# Altium integrated library ALTIUM-WCAP-ASLU-rev17a.IntLib: 55 symbols
Pins are listed as number, name and electrical type; pins without a type are passive.

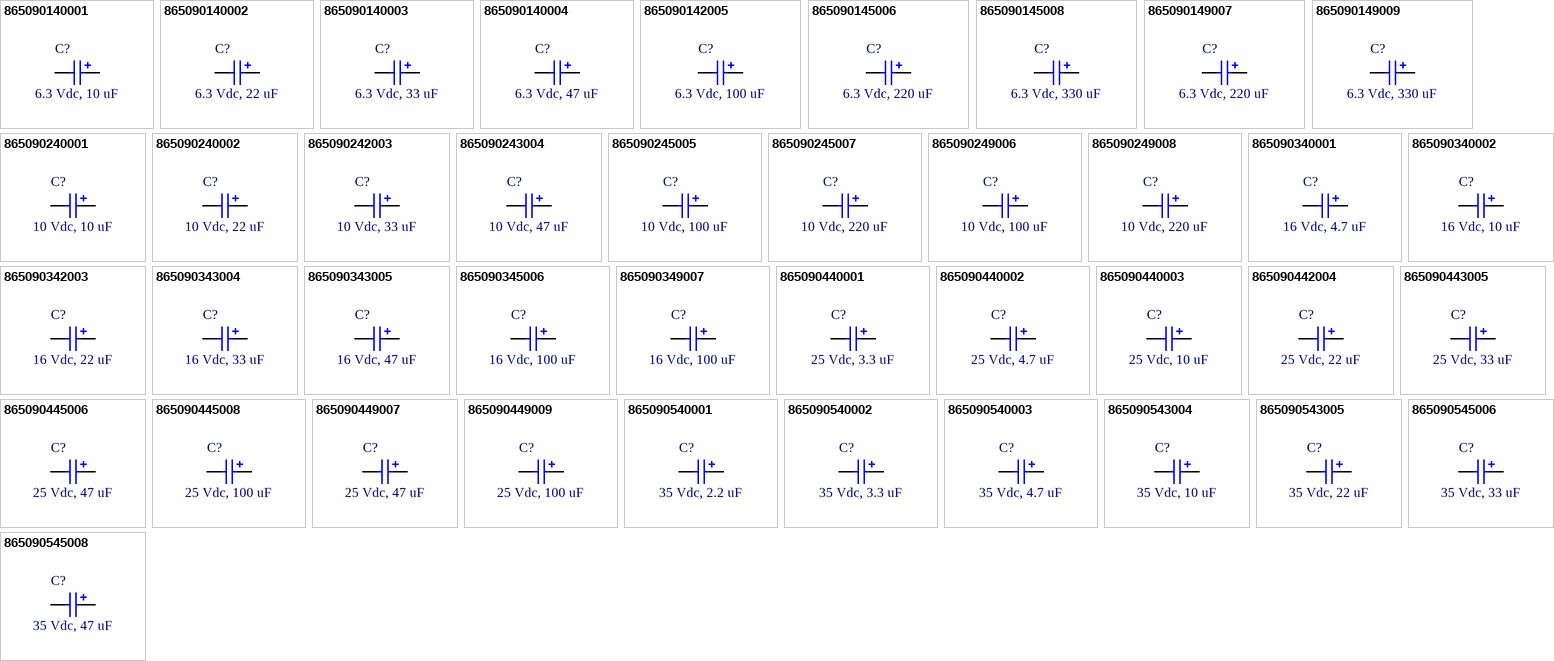
[diagram p0: symbols 865090140001 to 865090545008]

## 865090140001
designator C?, comment 6.3 Vdc, 10 uF
WCAP-ASLU Aluminum Electrolytic Capacitors, 4x5.5mm, 6.3 Vdc, 10 uF; Part Number: 865090140001; Rated Voltage: 6.3 Vdc; Value: 10 uF; ComponentLink1Description: Manufacturer; ComponentLink1URL: http://www.we-online.de; ComponentLink2Description: Datasheet; ComponentLink2URL: http://katalog.we-online.com/pbs/datasheet/865090140001.pdf; Published Date: Sep. 2017; Publisher: Wurth Elektronik; Size: 4x5.5mm; Life Cycle: 1000h; Operating Temperature: -40 °C to +85 °C
footprint WCAP-ASLU_4x5.5
pins: 1 P, 2 N

## 865090140002
designator C?, comment 6.3 Vdc, 22 uF
WCAP-ASLU Aluminum Electrolytic Capacitors, 4x5.5mm, 6.3 Vdc, 22 uF; Part Number: 865090140002; Rated Voltage: 6.3 Vdc; Value: 22 uF; ComponentLink1Description: Manufacturer; ComponentLink1URL: http://www.we-online.de; ComponentLink2Description: Datasheet; ComponentLink2URL: http://katalog.we-online.com/pbs/datasheet/865090140002.pdf; Published Date: Sep. 2017; Publisher: Wurth Elektronik; Size: 4x5.5mm; Life Cycle: 1000h; Operating Temperature: -40 °C to +85 °C
footprint WCAP-ASLU_4x5.5
pins: 1 P, 2 N

## 865090140003
designator C?, comment 6.3 Vdc, 33 uF
WCAP-ASLU Aluminum Electrolytic Capacitors, 4x5.5mm, 6.3 Vdc, 33 uF; Part Number: 865090140003; Rated Voltage: 6.3 Vdc; Value: 33 uF; ComponentLink1Description: Manufacturer; ComponentLink1URL: http://www.we-online.de; ComponentLink2Description: Datasheet; ComponentLink2URL: http://katalog.we-online.com/pbs/datasheet/865090140003.pdf; Published Date: Sep. 2017; Publisher: Wurth Elektronik; Size: 4x5.5mm; Life Cycle: 1000h; Operating Temperature: -40 °C to +85 °C
footprint WCAP-ASLU_4x5.5
pins: 1 P, 2 N

## 865090140004
designator C?, comment 6.3 Vdc, 47 uF
WCAP-ASLU Aluminum Electrolytic Capacitors, 4x5.5mm, 6.3 Vdc, 47 uF; Part Number: 865090140004; Rated Voltage: 6.3 Vdc; Value: 47 uF; ComponentLink1Description: Manufacturer; ComponentLink1URL: http://www.we-online.de; ComponentLink2Description: Datasheet; ComponentLink2URL: http://katalog.we-online.com/pbs/datasheet/865090140004.pdf; Published Date: Sep. 2017; Publisher: Wurth Elektronik; Size: 4x5.5mm; Life Cycle: 1000h; Operating Temperature: -40 °C to +85 °C
footprint WCAP-ASLU_4x5.5
pins: 1 P, 2 N

## 865090142005
designator C?, comment 6.3 Vdc, 100 uF
WCAP-ASLU Aluminum Electrolytic Capacitors, 5x5.5mm, 6.3 Vdc, 100 uF; Part Number: 865090142005; Rated Voltage: 6.3 Vdc; Value: 100 uF; ComponentLink1Description: Manufacturer; ComponentLink1URL: http://www.we-online.de; ComponentLink2Description: Datasheet; ComponentLink2URL: http://katalog.we-online.com/pbs/datasheet/865090142005.pdf; Published Date: Sep. 2017; Publisher: Wurth Elektronik; Size: 5x5.5mm; Life Cycle: 1000h; Operating Temperature: -40 °C to +85 °C
footprint WCAP-ASLU_5x5.5
pins: 1 P, 2 N

## 865090145006
designator C?, comment 6.3 Vdc, 220 uF
WCAP-ASLU Aluminum Electrolytic Capacitors, 6.3x7.7mm, 6.3 Vdc, 220 uF; Part Number: 865090145006; Rated Voltage: 6.3 Vdc; Value: 220 uF; ComponentLink1Description: Manufacturer; ComponentLink1URL: http://www.we-online.de; ComponentLink2Description: Datasheet; ComponentLink2URL: http://katalog.we-online.com/pbs/datasheet/865090145006.pdf; Published Date: Sep. 2017; Publisher: Wurth Elektronik; Size: 6.3x7.7mm; Life Cycle: 1000h; Operating Temperature: -40 °C to +85 °C
footprint WCAP-ASLU_6.3x7.7
pins: 1 P, 2 N

## 865090145008
designator C?, comment 6.3 Vdc, 330 uF
WCAP-ASLU Aluminum Electrolytic Capacitors, 6.3x7.7mm, 6.3 Vdc, 330 uF; Part Number: 865090145008; Rated Voltage: 6.3 Vdc; Value: 330 uF; ComponentLink1Description: Manufacturer; ComponentLink1URL: http://www.we-online.de; ComponentLink2Description: Datasheet; ComponentLink2URL: http://katalog.we-online.com/pbs/datasheet/865090145008.pdf; Published Date: Sep. 2017; Publisher: Wurth Elektronik; Size: 6.3x7.7mm; Life Cycle: 1000h; Operating Temperature: -40 °C to +85 °C
footprint WCAP-ASLU_6.3x7.7
pins: 1 P, 2 N

## 865090149007
designator C?, comment 6.3 Vdc, 220 uF
WCAP-ASLU Aluminum Electrolytic Capacitors, 8x6.5mm, 6.3 Vdc, 220 uF; Part Number: 865090149007; Rated Voltage: 6.3 Vdc; Value: 220 uF; ComponentLink1Description: Manufacturer; ComponentLink1URL: http://www.we-online.de; ComponentLink2Description: Datasheet; ComponentLink2URL: http://katalog.we-online.com/pbs/datasheet/865090149007.pdf; Published Date: Sep. 2017; Publisher: Wurth Elektronik; Size: 8x6.5mm; Life Cycle: 1000h; Operating Temperature: -40 °C to +85 °C
footprint WCAP-ASLU_8x6.5
pins: 1 P, 2 N

## 865090149009
designator C?, comment 6.3 Vdc, 330 uF
WCAP-ASLU Aluminum Electrolytic Capacitors, 8x6.5mm, 6.3 Vdc, 330 uF; Part Number: 865090149009; Rated Voltage: 6.3 Vdc; Value: 330 uF; ComponentLink1Description: Manufacturer; ComponentLink1URL: http://www.we-online.de; ComponentLink2Description: Datasheet; ComponentLink2URL: http://katalog.we-online.com/pbs/datasheet/865090149009.pdf; Published Date: Sep. 2017; Publisher: Wurth Elektronik; Size: 8x6.5mm; Life Cycle: 1000h; Operating Temperature: -40 °C to +85 °C
footprint WCAP-ASLU_8x6.5
pins: 1 P, 2 N

## 865090240001
designator C?, comment 10 Vdc, 10 uF
WCAP-ASLU Aluminum Electrolytic Capacitors, 4x5.5mm, 10 Vdc, 10 uF; Part Number: 865090240001; Rated Voltage: 10 Vdc; Value: 10 uF; ComponentLink1Description: Manufacturer; ComponentLink1URL: http://www.we-online.de; ComponentLink2Description: Datasheet; ComponentLink2URL: http://katalog.we-online.com/pbs/datasheet/865090240001.pdf; Published Date: Sep. 2017; Publisher: Wurth Elektronik; Size: 4x5.5mm; Life Cycle: 1000h; Operating Temperature: -40 °C to +85 °C
footprint WCAP-ASLU_4x5.5
pins: 1 P, 2 N

## 865090240002
designator C?, comment 10 Vdc, 22 uF
WCAP-ASLU Aluminum Electrolytic Capacitors, 4x5.5mm, 10 Vdc, 22 uF; Part Number: 865090240002; Rated Voltage: 10 Vdc; Value: 22 uF; ComponentLink1Description: Manufacturer; ComponentLink1URL: http://www.we-online.de; ComponentLink2Description: Datasheet; ComponentLink2URL: http://katalog.we-online.com/pbs/datasheet/865090240002.pdf; Published Date: Sep. 2017; Publisher: Wurth Elektronik; Size: 4x5.5mm; Life Cycle: 1000h; Operating Temperature: -40 °C to +85 °C
footprint WCAP-ASLU_4x5.5
pins: 1 P, 2 N

## 865090242003
designator C?, comment 10 Vdc, 33 uF
WCAP-ASLU Aluminum Electrolytic Capacitors, 5x5.5mm, 10 Vdc, 33 uF; Part Number: 865090242003; Rated Voltage: 10 Vdc; Value: 33 uF; ComponentLink1Description: Manufacturer; ComponentLink1URL: http://www.we-online.de; ComponentLink2Description: Datasheet; ComponentLink2URL: http://katalog.we-online.com/pbs/datasheet/865090242003.pdf; Published Date: Sep. 2017; Publisher: Wurth Elektronik; Size: 5x5.5mm; Life Cycle: 1000h; Operating Temperature: -40 °C to +85 °C
footprint WCAP-ASLU_5x5.5
pins: 1 P, 2 N

## 865090243004
designator C?, comment 10 Vdc, 47 uF
WCAP-ASLU Aluminum Electrolytic Capacitors, 6.3x5.5mm, 10 Vdc, 47 uF; Part Number: 865090243004; Rated Voltage: 10 Vdc; Value: 47 uF; ComponentLink1Description: Manufacturer; ComponentLink1URL: http://www.we-online.de; ComponentLink2Description: Datasheet; ComponentLink2URL: http://katalog.we-online.com/pbs/datasheet/865090243004.pdf; Published Date: Sep. 2017; Publisher: Wurth Elektronik; Size: 6.3x5.5mm; Life Cycle: 1000h; Operating Temperature: -40 °C to +85 °C
footprint WCAP-ASLU_6.3x5.5
pins: 1 P, 2 N

## 865090245005
designator C?, comment 10 Vdc, 100 uF
WCAP-ASLU Aluminum Electrolytic Capacitors, 6.3x7.7mm, 10 Vdc, 100 uF; Part Number: 865090245005; Rated Voltage: 10 Vdc; Value: 100 uF; ComponentLink1Description: Manufacturer; ComponentLink1URL: http://www.we-online.de; ComponentLink2Description: Datasheet; ComponentLink2URL: http://katalog.we-online.com/pbs/datasheet/865090245005.pdf; Published Date: Sep. 2017; Publisher: Wurth Elektronik; Size: 6.3x7.7mm; Life Cycle: 1000h; Operating Temperature: -40 °C to +85 °C
footprint WCAP-ASLU_6.3x7.7
pins: 1 P, 2 N

## 865090245007
designator C?, comment 10 Vdc, 220 uF
WCAP-ASLU Aluminum Electrolytic Capacitors, 6.3x7.7mm, 10 Vdc, 220 uF; Part Number: 865090245007; Rated Voltage: 10 Vdc; Value: 220 uF; ComponentLink1Description: Manufacturer; ComponentLink1URL: http://www.we-online.de; ComponentLink2Description: Datasheet; ComponentLink2URL: http://katalog.we-online.com/pbs/datasheet/865090245007.pdf; Published Date: Sep. 2017; Publisher: Wurth Elektronik; Size: 6.3x7.7mm; Life Cycle: 1000h; Operating Temperature: -40 °C to +85 °C
footprint WCAP-ASLU_6.3x7.7
pins: 1 P, 2 N

## 865090249006
designator C?, comment 10 Vdc, 100 uF
WCAP-ASLU Aluminum Electrolytic Capacitors, 8x6.5mm, 10 Vdc, 100 uF; Part Number: 865090249006; Rated Voltage: 10 Vdc; Value: 100 uF; ComponentLink1Description: Manufacturer; ComponentLink1URL: http://www.we-online.de; ComponentLink2Description: Datasheet; ComponentLink2URL: http://katalog.we-online.com/pbs/datasheet/865090249006.pdf; Published Date: Sep. 2017; Publisher: Wurth Elektronik; Size: 8x6.5mm; Life Cycle: 1000h; Operating Temperature: -40 °C to +85 °C
footprint WCAP-ASLU_8x6.5
pins: 1 P, 2 N

## 865090249008
designator C?, comment 10 Vdc, 220 uF
WCAP-ASLU Aluminum Electrolytic Capacitors, 8x6.5mm, 10 Vdc, 220 uF; Part Number: 865090249008; Rated Voltage: 10 Vdc; Value: 220 uF; ComponentLink1Description: Manufacturer; ComponentLink1URL: http://www.we-online.de; ComponentLink2Description: Datasheet; ComponentLink2URL: http://katalog.we-online.com/pbs/datasheet/865090249008.pdf; Published Date: Sep. 2017; Publisher: Wurth Elektronik; Size: 8x6.5mm; Life Cycle: 1000h; Operating Temperature: -40 °C to +85 °C
footprint WCAP-ASLU_8x6.5
pins: 1 P, 2 N

## 865090340001
designator C?, comment 16 Vdc, 4.7 uF
WCAP-ASLU Aluminum Electrolytic Capacitors, 4x5.5mm, 16 Vdc, 4.7 uF; Part Number: 865090340001; Rated Voltage: 16 Vdc; Value: 4.7 uF; ComponentLink1Description: Manufacturer; ComponentLink1URL: http://www.we-online.de; ComponentLink2Description: Datasheet; ComponentLink2URL: http://katalog.we-online.com/pbs/datasheet/865090340001.pdf; Published Date: Sep. 2017; Publisher: Wurth Elektronik; Size: 4x5.5mm; Life Cycle: 1000h; Operating Temperature: -40 °C to +85 °C
footprint WCAP-ASLU_4x5.5
pins: 1 P, 2 N

## 865090340002
designator C?, comment 16 Vdc, 10 uF
WCAP-ASLU Aluminum Electrolytic Capacitors, 4x5.5mm, 16 Vdc, 10 uF; Part Number: 865090340002; Rated Voltage: 16 Vdc; Value: 10 uF; ComponentLink1Description: Manufacturer; ComponentLink1URL: http://www.we-online.de; ComponentLink2Description: Datasheet; ComponentLink2URL: http://katalog.we-online.com/pbs/datasheet/865090340002.pdf; Published Date: Sep. 2017; Publisher: Wurth Elektronik; Size: 4x5.5mm; Life Cycle: 1000h; Operating Temperature: -40 °C to +85 °C
footprint WCAP-ASLU_4x5.5
pins: 1 P, 2 N

## 865090342003
designator C?, comment 16 Vdc, 22 uF
WCAP-ASLU Aluminum Electrolytic Capacitors, 5x5.5mm, 16 Vdc, 22 uF; Part Number: 865090342003; Rated Voltage: 16 Vdc; Value: 22 uF; ComponentLink1Description: Manufacturer; ComponentLink1URL: http://www.we-online.de; ComponentLink2Description: Datasheet; ComponentLink2URL: http://katalog.we-online.com/pbs/datasheet/865090342003.pdf; Published Date: Sep. 2017; Publisher: Wurth Elektronik; Size: 5x5.5mm; Life Cycle: 1000h; Operating Temperature: -40 °C to +85 °C
footprint WCAP-ASLU_5x5.5
pins: 1 P, 2 N

## 865090343004
designator C?, comment 16 Vdc, 33 uF
WCAP-ASLU Aluminum Electrolytic Capacitors, 6.3x5.5mm, 16 Vdc, 33 uF; Part Number: 865090343004; Rated Voltage: 16 Vdc; Value: 33 uF; ComponentLink1Description: Manufacturer; ComponentLink1URL: http://www.we-online.de; ComponentLink2Description: Datasheet; ComponentLink2URL: http://katalog.we-online.com/pbs/datasheet/865090343004.pdf; Published Date: Sep. 2017; Publisher: Wurth Elektronik; Size: 6.3x5.5mm; Life Cycle: 1000h; Operating Temperature: -40 °C to +85 °C
footprint WCAP-ASLU_6.3x5.5
pins: 1 P, 2 N

## 865090343005
designator C?, comment 16 Vdc, 47 uF
WCAP-ASLU Aluminum Electrolytic Capacitors, 6.3x5.5mm, 16 Vdc, 47 uF; Part Number: 865090343005; Rated Voltage: 16 Vdc; Value: 47 uF; ComponentLink1Description: Manufacturer; ComponentLink1URL: http://www.we-online.de; ComponentLink2Description: Datasheet; ComponentLink2URL: http://katalog.we-online.com/pbs/datasheet/865090343005.pdf; Published Date: Sep. 2017; Publisher: Wurth Elektronik; Size: 6.3x5.5mm; Life Cycle: 1000h; Operating Temperature: -40 °C to +85 °C
footprint WCAP-ASLU_6.3x5.5
pins: 1 P, 2 N

## 865090345006
designator C?, comment 16 Vdc, 100 uF
WCAP-ASLU Aluminum Electrolytic Capacitors, 6.3x7.7mm, 16 Vdc, 100 uF; Part Number: 865090345006; Rated Voltage: 16 Vdc; Value: 100 uF; ComponentLink1Description: Manufacturer; ComponentLink1URL: http://www.we-online.de; ComponentLink2Description: Datasheet; ComponentLink2URL: http://katalog.we-online.com/pbs/datasheet/865090345006.pdf; Published Date: Sep. 2017; Publisher: Wurth Elektronik; Size: 6.3x7.7mm; Life Cycle: 1000h; Operating Temperature: -40 °C to +85 °C
footprint WCAP-ASLU_6.3x7.7
pins: 1 P, 2 N

## 865090349007
designator C?, comment 16 Vdc, 100 uF
WCAP-ASLU Aluminum Electrolytic Capacitors, 8x6.5mm, 16 Vdc, 100 uF; Part Number: 865090349007; Rated Voltage: 16 Vdc; Value: 100 uF; ComponentLink1Description: Manufacturer; ComponentLink1URL: http://www.we-online.de; ComponentLink2Description: Datasheet; ComponentLink2URL: http://katalog.we-online.com/pbs/datasheet/865090349007.pdf; Published Date: Sep. 2017; Publisher: Wurth Elektronik; Size: 8x6.5mm; Life Cycle: 1000h; Operating Temperature: -40 °C to +85 °C
footprint WCAP-ASLU_8x6.5
pins: 1 P, 2 N

## 865090440001
designator C?, comment 25 Vdc, 3.3 uF
WCAP-ASLU Aluminum Electrolytic Capacitors, 4x5.5mm, 25 Vdc, 3.3 uF; Part Number: 865090440001; Rated Voltage: 25 Vdc; Value: 3.3 uF; ComponentLink1Description: Manufacturer; ComponentLink1URL: http://www.we-online.de; ComponentLink2Description: Datasheet; ComponentLink2URL: http://katalog.we-online.com/pbs/datasheet/865090440001.pdf; Published Date: Sep. 2017; Publisher: Wurth Elektronik; Size: 4x5.5mm; Life Cycle: 1000h; Operating Temperature: -40 °C to +85 °C
footprint WCAP-ASLU_4x5.5
pins: 1 P, 2 N

## 865090440002
designator C?, comment 25 Vdc, 4.7 uF
WCAP-ASLU Aluminum Electrolytic Capacitors, 4x5.5mm, 25 Vdc, 4.7 uF; Part Number: 865090440002; Rated Voltage: 25 Vdc; Value: 4.7 uF; ComponentLink1Description: Manufacturer; ComponentLink1URL: http://www.we-online.de; ComponentLink2Description: Datasheet; ComponentLink2URL: http://katalog.we-online.com/pbs/datasheet/865090440002.pdf; Published Date: Sep. 2017; Publisher: Wurth Elektronik; Size: 4x5.5mm; Life Cycle: 1000h; Operating Temperature: -40 °C to +85 °C
footprint WCAP-ASLU_4x5.5
pins: 1 P, 2 N

## 865090440003
designator C?, comment 25 Vdc, 10 uF
WCAP-ASLU Aluminum Electrolytic Capacitors, 4x5.5mm, 25 Vdc, 10 uF; Part Number: 865090440003; Rated Voltage: 25 Vdc; Value: 10 uF; ComponentLink1Description: Manufacturer; ComponentLink1URL: http://www.we-online.de; ComponentLink2Description: Datasheet; ComponentLink2URL: http://katalog.we-online.com/pbs/datasheet/865090440003.pdf; Published Date: Sep. 2017; Publisher: Wurth Elektronik; Size: 4x5.5mm; Life Cycle: 1000h; Operating Temperature: -40 °C to +85 °C
footprint WCAP-ASLU_4x5.5
pins: 1 P, 2 N

## 865090442004
designator C?, comment 25 Vdc, 22 uF
WCAP-ASLU Aluminum Electrolytic Capacitors, 5x5.5mm, 25 Vdc, 22 uF; Part Number: 865090442004; Rated Voltage: 25 Vdc; Value: 22 uF; ComponentLink1Description: Manufacturer; ComponentLink1URL: http://www.we-online.de; ComponentLink2Description: Datasheet; ComponentLink2URL: http://katalog.we-online.com/pbs/datasheet/865090442004.pdf; Published Date: Sep. 2017; Publisher: Wurth Elektronik; Size: 5x5.5mm; Life Cycle: 1000h; Operating Temperature: -40 °C to +85 °C
footprint WCAP-ASLU_5x5.5
pins: 1 P, 2 N

## 865090443005
designator C?, comment 25 Vdc, 33 uF
WCAP-ASLU Aluminum Electrolytic Capacitors, 6.3x5.5mm, 25 Vdc, 33 uF; Part Number: 865090443005; Rated Voltage: 25 Vdc; Value: 33 uF; ComponentLink1Description: Manufacturer; ComponentLink1URL: http://www.we-online.de; ComponentLink2Description: Datasheet; ComponentLink2URL: http://katalog.we-online.com/pbs/datasheet/865090443005.pdf; Published Date: Sep. 2017; Publisher: Wurth Elektronik; Size: 6.3x5.5mm; Life Cycle: 1000h; Operating Temperature: -40 °C to +85 °C
footprint WCAP-ASLU_6.3x5.5
pins: 1 P, 2 N

## 865090445006
designator C?, comment 25 Vdc, 47 uF
WCAP-ASLU Aluminum Electrolytic Capacitors, 6.3x7.7mm, 25 Vdc, 47 uF; Part Number: 865090445006; Rated Voltage: 25 Vdc; Value: 47 uF; ComponentLink1Description: Manufacturer; ComponentLink1URL: http://www.we-online.de; ComponentLink2Description: Datasheet; ComponentLink2URL: http://katalog.we-online.com/pbs/datasheet/865090445006.pdf; Published Date: Sep. 2017; Publisher: Wurth Elektronik; Size: 6.3x7.7mm; Life Cycle: 1000h; Operating Temperature: -40 °C to +85 °C
footprint WCAP-ASLU_6.3x7.7
pins: 1 P, 2 N

## 865090445008
designator C?, comment 25 Vdc, 100 uF
WCAP-ASLU Aluminum Electrolytic Capacitors, 6.3x7.7mm, 25 Vdc, 100 uF; Part Number: 865090445008; Rated Voltage: 25 Vdc; Value: 100 uF; ComponentLink1Description: Manufacturer; ComponentLink1URL: http://www.we-online.de; ComponentLink2Description: Datasheet; ComponentLink2URL: http://katalog.we-online.com/pbs/datasheet/865090445008.pdf; Published Date: Sep. 2017; Publisher: Wurth Elektronik; Size: 6.3x7.7mm; Life Cycle: 1000h; Operating Temperature: -40 °C to +85 °C
footprint WCAP-ASLU_6.3x7.7
pins: 1 P, 2 N

## 865090449007
designator C?, comment 25 Vdc, 47 uF
WCAP-ASLU Aluminum Electrolytic Capacitors, 8x6.5mm, 25 Vdc, 47 uF; Part Number: 865090449007; Rated Voltage: 25 Vdc; Value: 47 uF; ComponentLink1Description: Manufacturer; ComponentLink1URL: http://www.we-online.de; ComponentLink2Description: Datasheet; ComponentLink2URL: http://katalog.we-online.com/pbs/datasheet/865090449007.pdf; Published Date: Sep. 2017; Publisher: Wurth Elektronik; Size: 8x6.5mm; Life Cycle: 1000h; Operating Temperature: -40 °C to +85 °C
footprint WCAP-ASLU_8x6.5
pins: 1 P, 2 N

## 865090449009
designator C?, comment 25 Vdc, 100 uF
WCAP-ASLU Aluminum Electrolytic Capacitors, 8x6.5mm, 25 Vdc, 100 uF; Part Number: 865090449009; Rated Voltage: 25 Vdc; Value: 100 uF; ComponentLink1Description: Manufacturer; ComponentLink1URL: http://www.we-online.de; ComponentLink2Description: Datasheet; ComponentLink2URL: http://katalog.we-online.com/pbs/datasheet/865090449009.pdf; Published Date: Sep. 2017; Publisher: Wurth Elektronik; Size: 8x6.5mm; Life Cycle: 1000h; Operating Temperature: -40 °C to +85 °C
footprint WCAP-ASLU_8x6.5
pins: 1 P, 2 N

## 865090540001
designator C?, comment 35 Vdc, 2.2 uF
WCAP-ASLU Aluminum Electrolytic Capacitors, 4x5.5mm, 35 Vdc, 2.2 uF; Part Number: 865090540001; Rated Voltage: 35 Vdc; Value: 2.2 uF; ComponentLink1Description: Manufacturer; ComponentLink1URL: http://www.we-online.de; ComponentLink2Description: Datasheet; ComponentLink2URL: http://katalog.we-online.com/pbs/datasheet/865090540001.pdf; Published Date: Sep. 2017; Publisher: Wurth Elektronik; Size: 4x5.5mm; Life Cycle: 1000h; Operating Temperature: -40 °C to +85 °C
footprint WCAP-ASLU_4x5.5
pins: 1 P, 2 N

## 865090540002
designator C?, comment 35 Vdc, 3.3 uF
WCAP-ASLU Aluminum Electrolytic Capacitors, 4x5.5mm, 35 Vdc, 3.3 uF; Part Number: 865090540002; Rated Voltage: 35 Vdc; Value: 3.3 uF; ComponentLink1Description: Manufacturer; ComponentLink1URL: http://www.we-online.de; ComponentLink2Description: Datasheet; ComponentLink2URL: http://katalog.we-online.com/pbs/datasheet/865090540002.pdf; Published Date: Sep. 2017; Publisher: Wurth Elektronik; Size: 4x5.5mm; Life Cycle: 1000h; Operating Temperature: -40 °C to +85 °C
footprint WCAP-ASLU_4x5.5
pins: 1 P, 2 N

## 865090540003
designator C?, comment 35 Vdc, 4.7 uF
WCAP-ASLU Aluminum Electrolytic Capacitors, 4x5.5mm, 35 Vdc, 4.7 uF; Part Number: 865090540003; Rated Voltage: 35 Vdc; Value: 4.7 uF; ComponentLink1Description: Manufacturer; ComponentLink1URL: http://www.we-online.de; ComponentLink2Description: Datasheet; ComponentLink2URL: http://katalog.we-online.com/pbs/datasheet/865090540003.pdf; Published Date: Sep. 2017; Publisher: Wurth Elektronik; Size: 4x5.5mm; Life Cycle: 1000h; Operating Temperature: -40 °C to +85 °C
footprint WCAP-ASLU_4x5.5
pins: 1 P, 2 N

## 865090543004
designator C?, comment 35 Vdc, 10 uF
WCAP-ASLU Aluminum Electrolytic Capacitors, 6.3x5.5mm, 35 Vdc, 10 uF; Part Number: 865090543004; Rated Voltage: 35 Vdc; Value: 10 uF; ComponentLink1Description: Manufacturer; ComponentLink1URL: http://www.we-online.de; ComponentLink2Description: Datasheet; ComponentLink2URL: http://katalog.we-online.com/pbs/datasheet/865090543004.pdf; Published Date: Sep. 2017; Publisher: Wurth Elektronik; Size: 6.3x5.5mm; Life Cycle: 1000h; Operating Temperature: -40 °C to +85 °C
footprint WCAP-ASLU_6.3x5.5
pins: 1 P, 2 N

## 865090543005
designator C?, comment 35 Vdc, 22 uF
WCAP-ASLU Aluminum Electrolytic Capacitors, 6.3x5.5mm, 35 Vdc, 22 uF; Part Number: 865090543005; Rated Voltage: 35 Vdc; Value: 22 uF; ComponentLink1Description: Manufacturer; ComponentLink1URL: http://www.we-online.de; ComponentLink2Description: Datasheet; ComponentLink2URL: http://katalog.we-online.com/pbs/datasheet/865090543005.pdf; Published Date: Sep. 2017; Publisher: Wurth Elektronik; Size: 6.3x5.5mm; Life Cycle: 1000h; Operating Temperature: -40 °C to +85 °C
footprint WCAP-ASLU_6.3x5.5
pins: 1 P, 2 N

## 865090545006
designator C?, comment 35 Vdc, 33 uF
WCAP-ASLU Aluminum Electrolytic Capacitors, 6.3x7.7mm, 35 Vdc, 33 uF; Part Number: 865090545006; Rated Voltage: 35 Vdc; Value: 33 uF; ComponentLink1Description: Manufacturer; ComponentLink1URL: http://www.we-online.de; ComponentLink2Description: Datasheet; ComponentLink2URL: http://katalog.we-online.com/pbs/datasheet/865090545006.pdf; Published Date: Sep. 2017; Publisher: Wurth Elektronik; Size: 6.3x7.7mm; Life Cycle: 1000h; Operating Temperature: -40 °C to +85 °C
footprint WCAP-ASLU_6.3x7.7
pins: 1 P, 2 N

## 865090545008
designator C?, comment 35 Vdc, 47 uF
WCAP-ASLU Aluminum Electrolytic Capacitors, 6.3x7.7mm, 35 Vdc, 47 uF; Part Number: 865090545008; Rated Voltage: 35 Vdc; Value: 47 uF; ComponentLink1Description: Manufacturer; ComponentLink1URL: http://www.we-online.de; ComponentLink2Description: Datasheet; ComponentLink2URL: http://katalog.we-online.com/pbs/datasheet/865090545008.pdf; Published Date: Sep. 2017; Publisher: Wurth Elektronik; Size: 6.3x7.7mm; Life Cycle: 1000h; Operating Temperature: -40 °C to +85 °C
footprint WCAP-ASLU_6.3x7.7
pins: 1 P, 2 N

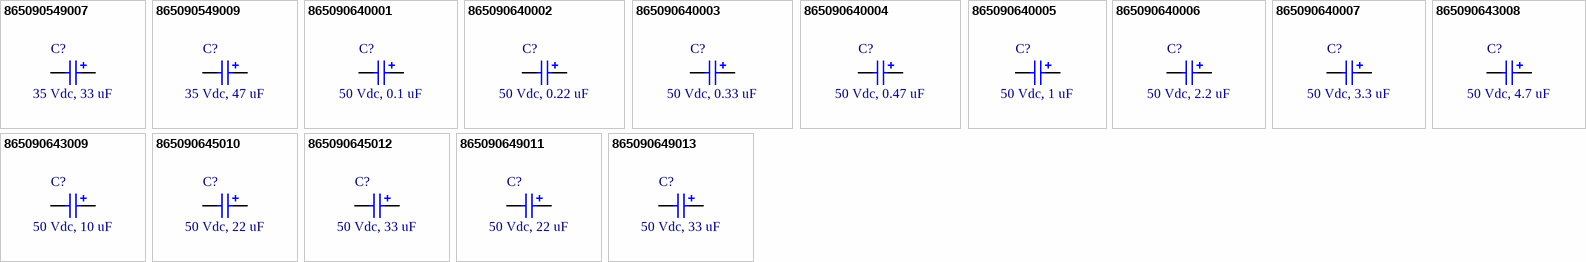
[diagram p1: symbols 865090549007 to 865090649013]

## 865090549007
designator C?, comment 35 Vdc, 33 uF
WCAP-ASLU Aluminum Electrolytic Capacitors, 8x6.5mm, 35 Vdc, 33 uF; Part Number: 865090549007; Rated Voltage: 35 Vdc; Value: 33 uF; ComponentLink1Description: Manufacturer; ComponentLink1URL: http://www.we-online.de; ComponentLink2Description: Datasheet; ComponentLink2URL: http://katalog.we-online.com/pbs/datasheet/865090549007.pdf; Published Date: Sep. 2017; Publisher: Wurth Elektronik; Size: 8x6.5mm; Life Cycle: 1000h; Operating Temperature: -40 °C to +85 °C
footprint WCAP-ASLU_8x6.5
pins: 1 P, 2 N

## 865090549009
designator C?, comment 35 Vdc, 47 uF
WCAP-ASLU Aluminum Electrolytic Capacitors, 8x6.5mm, 35 Vdc, 47 uF; Part Number: 865090549009; Rated Voltage: 35 Vdc; Value: 47 uF; ComponentLink1Description: Manufacturer; ComponentLink1URL: http://www.we-online.de; ComponentLink2Description: Datasheet; ComponentLink2URL: http://katalog.we-online.com/pbs/datasheet/865090549009.pdf; Published Date: Sep. 2017; Publisher: Wurth Elektronik; Size: 8x6.5mm; Life Cycle: 1000h; Operating Temperature: -40 °C to +85 °C
footprint WCAP-ASLU_8x6.5
pins: 1 P, 2 N

## 865090640001
designator C?, comment 50 Vdc, 0.1 uF
WCAP-ASLU Aluminum Electrolytic Capacitors, 4x5.5mm, 50 Vdc, 0.1 uF; Part Number: 865090640001; Rated Voltage: 50 Vdc; Value: 0.1 uF; ComponentLink1Description: Manufacturer; ComponentLink1URL: http://www.we-online.de; ComponentLink2Description: Datasheet; ComponentLink2URL: http://katalog.we-online.com/pbs/datasheet/865090640001.pdf; Published Date: Sep. 2017; Publisher: Wurth Elektronik; Size: 4x5.5mm; Life Cycle: 1000h; Operating Temperature: -40 °C to +85 °C
footprint WCAP-ASLU_4x5.5
pins: 1 P, 2 N

## 865090640002
designator C?, comment 50 Vdc, 0.22 uF
WCAP-ASLU Aluminum Electrolytic Capacitors, 4x5.5mm, 50 Vdc, 0.22 uF; Part Number: 865090640002; Rated Voltage: 50 Vdc; Value: 0.22 uF; ComponentLink1Description: Manufacturer; ComponentLink1URL: http://www.we-online.de; ComponentLink2Description: Datasheet; ComponentLink2URL: http://katalog.we-online.com/pbs/datasheet/865090640002.pdf; Published Date: Sep. 2017; Publisher: Wurth Elektronik; Size: 4x5.5mm; Life Cycle: 1000h; Operating Temperature: -40 °C to +85 °C
footprint WCAP-ASLU_4x5.5
pins: 1 P, 2 N

## 865090640003
designator C?, comment 50 Vdc, 0.33 uF
WCAP-ASLU Aluminum Electrolytic Capacitors, 4x5.5mm, 50 Vdc, 0.33 uF; Part Number: 865090640003; Rated Voltage: 50 Vdc; Value: 0.33 uF; ComponentLink1Description: Manufacturer; ComponentLink1URL: http://www.we-online.de; ComponentLink2Description: Datasheet; ComponentLink2URL: http://katalog.we-online.com/pbs/datasheet/865090640003.pdf; Published Date: Sep. 2017; Publisher: Wurth Elektronik; Size: 4x5.5mm; Life Cycle: 1000h; Operating Temperature: -40 °C to +85 °C
footprint WCAP-ASLU_4x5.5
pins: 1 P, 2 N

## 865090640004
designator C?, comment 50 Vdc, 0.47 uF
WCAP-ASLU Aluminum Electrolytic Capacitors, 4x5.5mm, 50 Vdc, 0.47 uF; Part Number: 865090640004; Rated Voltage: 50 Vdc; Value: 0.47 uF; ComponentLink1Description: Manufacturer; ComponentLink1URL: http://www.we-online.de; ComponentLink2Description: Datasheet; ComponentLink2URL: http://katalog.we-online.com/pbs/datasheet/865090640004.pdf; Published Date: Sep. 2017; Publisher: Wurth Elektronik; Size: 4x5.5mm; Life Cycle: 1000h; Operating Temperature: -40 °C to +85 °C
footprint WCAP-ASLU_4x5.5
pins: 1 P, 2 N

## 865090640005
designator C?, comment 50 Vdc, 1 uF
WCAP-ASLU Aluminum Electrolytic Capacitors, 4x5.5mm, 50 Vdc, 1 uF; Part Number: 865090640005; Rated Voltage: 50 Vdc; Value: 1 uF; ComponentLink1Description: Manufacturer; ComponentLink1URL: http://www.we-online.de; ComponentLink2Description: Datasheet; ComponentLink2URL: http://katalog.we-online.com/pbs/datasheet/865090640005.pdf; Published Date: Sep. 2017; Publisher: Wurth Elektronik; Size: 4x5.5mm; Life Cycle: 1000h; Operating Temperature: -40 °C to +85 °C
footprint WCAP-ASLU_4x5.5
pins: 1 P, 2 N

## 865090640006
designator C?, comment 50 Vdc, 2.2 uF
WCAP-ASLU Aluminum Electrolytic Capacitors, 4x5.5mm, 50 Vdc, 2.2 uF; Part Number: 865090640006; Rated Voltage: 50 Vdc; Value: 2.2 uF; ComponentLink1Description: Manufacturer; ComponentLink1URL: http://www.we-online.de; ComponentLink2Description: Datasheet; ComponentLink2URL: http://katalog.we-online.com/pbs/datasheet/865090640006.pdf; Published Date: Sep. 2017; Publisher: Wurth Elektronik; Size: 4x5.5mm; Life Cycle: 1000h; Operating Temperature: -40 °C to +85 °C
footprint WCAP-ASLU_4x5.5
pins: 1 P, 2 N

## 865090640007
designator C?, comment 50 Vdc, 3.3 uF
WCAP-ASLU Aluminum Electrolytic Capacitors, 4x5.5mm, 50 Vdc, 3.3 uF; Part Number: 865090640007; Rated Voltage: 50 Vdc; Value: 3.3 uF; ComponentLink1Description: Manufacturer; ComponentLink1URL: http://www.we-online.de; ComponentLink2Description: Datasheet; ComponentLink2URL: http://katalog.we-online.com/pbs/datasheet/865090640007.pdf; Published Date: Sep. 2017; Publisher: Wurth Elektronik; Size: 4x5.5mm; Life Cycle: 1000h; Operating Temperature: -40 °C to +85 °C
footprint WCAP-ASLU_4x5.5
pins: 1 P, 2 N

## 865090643008
designator C?, comment 50 Vdc, 4.7 uF
WCAP-ASLU Aluminum Electrolytic Capacitors, 6.3x5.5mm, 50 Vdc, 4.7 uF; Part Number: 865090643008; Rated Voltage: 50 Vdc; Value: 4.7 uF; ComponentLink1Description: Manufacturer; ComponentLink1URL: http://www.we-online.de; ComponentLink2Description: Datasheet; ComponentLink2URL: http://katalog.we-online.com/pbs/datasheet/865090643008.pdf; Published Date: Sep. 2017; Publisher: Wurth Elektronik; Size: 6.3x5.5mm; Life Cycle: 1000h; Operating Temperature: -40 °C to +85 °C
footprint WCAP-ASLU_6.3x5.5
pins: 1 P, 2 N

## 865090643009
designator C?, comment 50 Vdc, 10 uF
WCAP-ASLU Aluminum Electrolytic Capacitors, 6.3x5.5mm, 50 Vdc, 10 uF; Part Number: 865090643009; Rated Voltage: 50 Vdc; Value: 10 uF; ComponentLink1Description: Manufacturer; ComponentLink1URL: http://www.we-online.de; ComponentLink2Description: Datasheet; ComponentLink2URL: http://katalog.we-online.com/pbs/datasheet/865090643009.pdf; Published Date: Sep. 2017; Publisher: Wurth Elektronik; Size: 6.3x5.5mm; Life Cycle: 1000h; Operating Temperature: -40 °C to +85 °C
footprint WCAP-ASLU_6.3x5.5
pins: 1 P, 2 N

## 865090645010
designator C?, comment 50 Vdc, 22 uF
WCAP-ASLU Aluminum Electrolytic Capacitors, 6.3x7.7mm, 50 Vdc, 22 uF; Part Number: 865090645010; Rated Voltage: 50 Vdc; Value: 22 uF; ComponentLink1Description: Manufacturer; ComponentLink1URL: http://www.we-online.de; ComponentLink2Description: Datasheet; ComponentLink2URL: http://katalog.we-online.com/pbs/datasheet/865090645010.pdf; Published Date: Sep. 2017; Publisher: Wurth Elektronik; Size: 6.3x7.7mm; Life Cycle: 1000h; Operating Temperature: -40 °C to +85 °C
footprint WCAP-ASLU_6.3x7.7
pins: 1 P, 2 N

## 865090645012
designator C?, comment 50 Vdc, 33 uF
WCAP-ASLU Aluminum Electrolytic Capacitors, 6.3x7.7mm, 50 Vdc, 33 uF; Part Number: 865090645012; Rated Voltage: 50 Vdc; Value: 33 uF; ComponentLink1Description: Manufacturer; ComponentLink1URL: http://www.we-online.de; ComponentLink2Description: Datasheet; ComponentLink2URL: http://katalog.we-online.com/pbs/datasheet/865090645012.pdf; Published Date: Sep. 2017; Publisher: Wurth Elektronik; Size: 6.3x7.7mm; Life Cycle: 1000h; Operating Temperature: -40 °C to +85 °C
footprint WCAP-ASLU_6.3x7.7
pins: 1 P, 2 N

## 865090649011
designator C?, comment 50 Vdc, 22 uF
WCAP-ASLU Aluminum Electrolytic Capacitors, 8x6.5mm, 50 Vdc, 22 uF; Part Number: 865090649011; Rated Voltage: 50 Vdc; Value: 22 uF; ComponentLink1Description: Manufacturer; ComponentLink1URL: http://www.we-online.de; ComponentLink2Description: Datasheet; ComponentLink2URL: http://katalog.we-online.com/pbs/datasheet/865090649011.pdf; Published Date: Sep. 2017; Publisher: Wurth Elektronik; Size: 8x6.5mm; Life Cycle: 1000h; Operating Temperature: -40 °C to +85 °C
footprint WCAP-ASLU_8x6.5
pins: 1 P, 2 N

## 865090649013
designator C?, comment 50 Vdc, 33 uF
WCAP-ASLU Aluminum Electrolytic Capacitors, 8x6.5mm, 50 Vdc, 33 uF; Part Number: 865090649013; Rated Voltage: 50 Vdc; Value: 33 uF; ComponentLink1Description: Manufacturer; ComponentLink1URL: http://www.we-online.de; ComponentLink2Description: Datasheet; ComponentLink2URL: http://katalog.we-online.com/pbs/datasheet/865090649013.pdf; Published Date: Sep. 2017; Publisher: Wurth Elektronik; Size: 8x6.5mm; Life Cycle: 1000h; Operating Temperature: -40 °C to +85 °C
footprint WCAP-ASLU_8x6.5
pins: 1 P, 2 N